# Altium footprint library PQFP-160_28x28x065P.PcbLib: 1 footprints
Each footprint in its own frame and in the unit in brackets; x right, y up, seen from the top. Pads: shape width x height; smd on the part's side, far side on the other; paste and mask are expansions set on the pad; w line width, h text height; cw(c..) or ccw(c..) is an arc to the next point about the centre after c.
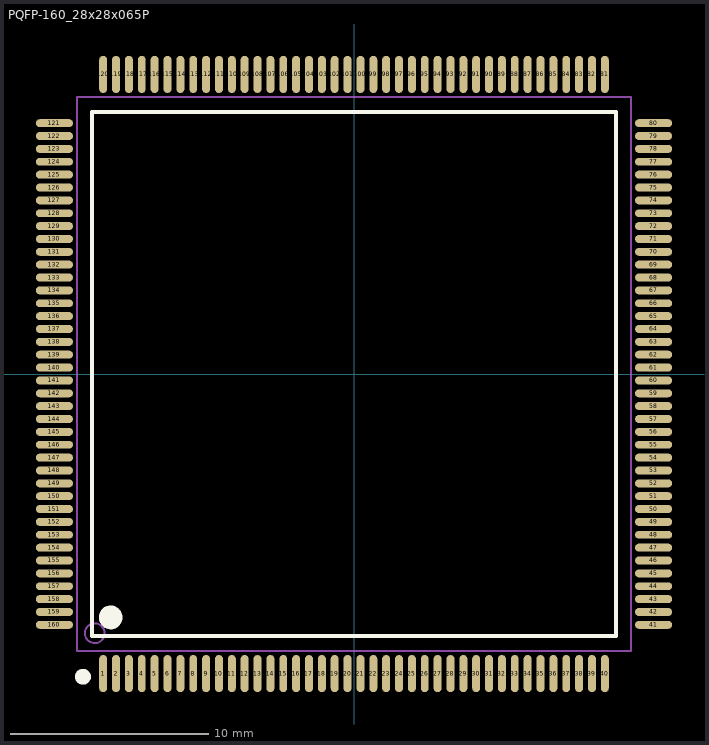
[diagram p0: the footprint, top view; thin cyan lines are the x and y axes]

## PQFP-160_28x28x065P [mm]
pads (160):
  oval 0.4x1.88 smd mask+0.051: 1(-12.675,-15.14) 2(-12.025,-15.14) 3(-11.375,-15.14) 4(-10.725,-15.14) 5(-10.075,-15.14) 6(-9.425,-15.14) 7(-8.775,-15.14) 8(-8.125,-15.14) 9(-7.475,-15.14) 10(-6.825,-15.14) 11(-6.175,-15.14) 12(-5.525,-15.14) 13(-4.875,-15.14) 14(-4.225,-15.14) 15(-3.575,-15.14) 16(-2.925,-15.14) 17(-2.275,-15.14) 18(-1.625,-15.14) 19(-0.975,-15.14) 20(-0.325,-15.14) 21(0.325,-15.14) 22(0.975,-15.14) 23(1.625,-15.14) 24(2.275,-15.14) 25(2.925,-15.14) 26(3.575,-15.14) 27(4.225,-15.14) 28(4.875,-15.14) 29(5.525,-15.14) 30(6.175,-15.14) 31(6.825,-15.14) 32(7.475,-15.14) 33(8.125,-15.14) 34(8.775,-15.14) 35(9.425,-15.14) 36(10.075,-15.14) 37(10.725,-15.14) 38(11.375,-15.14) 39(12.025,-15.14) 40(12.675,-15.14) 81(12.675,15.14) 82(12.025,15.14) 83(11.375,15.14) 84(10.725,15.14) 85(10.075,15.14) 86(9.425,15.14) 87(8.775,15.14) 88(8.125,15.14) 89(7.475,15.14) 90(6.825,15.14) 91(6.175,15.14) 92(5.525,15.14) 93(4.875,15.14) 94(4.225,15.14) 95(3.575,15.14) 96(2.925,15.14) 97(2.275,15.14) 98(1.625,15.14) 99(0.975,15.14) 100(0.325,15.14) 101(-0.325,15.14) 102(-0.975,15.14) 103(-1.625,15.14) 104(-2.275,15.14) 105(-2.925,15.14) 106(-3.575,15.14) 107(-4.225,15.14) 108(-4.875,15.14) 109(-5.525,15.14) 110(-6.175,15.14) 111(-6.825,15.14) 112(-7.475,15.14) 113(-8.125,15.14) 114(-8.775,15.14) 115(-9.425,15.14) 116(-10.075,15.14) 117(-10.725,15.14) 118(-11.375,15.14) 119(-12.025,15.14) 120(-12.675,15.14)
  oval 1.88x0.4 smd mask+0.051: 41(15.14,-12.675) 42(15.14,-12.025) 43(15.14,-11.375) 44(15.14,-10.725) 45(15.14,-10.075) 46(15.14,-9.425) 47(15.14,-8.775) 48(15.14,-8.125) 49(15.14,-7.475) 50(15.14,-6.825) 51(15.14,-6.175) 52(15.14,-5.525) 53(15.14,-4.875) 54(15.14,-4.225) 55(15.14,-3.575) 56(15.14,-2.925) 57(15.14,-2.275) 58(15.14,-1.625) 59(15.14,-0.975) 60(15.14,-0.325) 61(15.14,0.325) 62(15.14,0.975) 63(15.14,1.625) 64(15.14,2.275) 65(15.14,2.925) 66(15.14,3.575) 67(15.14,4.225) 68(15.14,4.875) 69(15.14,5.525) 70(15.14,6.175) 71(15.14,6.825) 72(15.14,7.475) 73(15.14,8.125) 74(15.14,8.775) 75(15.14,9.425) 76(15.14,10.075) 77(15.14,10.725) 78(15.14,11.375) 79(15.14,12.025) 80(15.14,12.675) 121(-15.14,12.675) 122(-15.14,12.025) 123(-15.14,11.375) 124(-15.14,10.725) 125(-15.14,10.075) 126(-15.14,9.425) 127(-15.14,8.775) 128(-15.14,8.125) 129(-15.14,7.475) 130(-15.14,6.825) 131(-15.14,6.175) 132(-15.14,5.525) 133(-15.14,4.875) 134(-15.14,4.225) 135(-15.14,3.575) 136(-15.14,2.925) 137(-15.14,2.275) 138(-15.14,1.625) 139(-15.14,0.975) 140(-15.14,0.325) 141(-15.14,-0.325) 142(-15.14,-0.975) 143(-15.14,-1.625) 144(-15.14,-2.275) 145(-15.14,-2.925) 146(-15.14,-3.575) 147(-15.14,-4.225) 148(-15.14,-4.875) 149(-15.14,-5.525) 150(-15.14,-6.175) 151(-15.14,-6.825) 152(-15.14,-7.475) 153(-15.14,-8.125) 154(-15.14,-8.775) 155(-15.14,-9.425) 156(-15.14,-10.075) 157(-15.14,-10.725) 158(-15.14,-11.375) 159(-15.14,-12.025) 160(-15.14,-12.675)
Top Overlay:
  circle w0.6: c-12.3,-12.3 r0.3
  circle w0.4: c-13.7,-15.3 r0.2
  lines w0.2: -13.25,-13.25 -13.25,13.25 13.25,13.25 13.25,-13.25 -13.25,-13.25
Mechanical 13:
  circle w0.1: c-13.1,-13.1 r0.5
  lines w0.1: -14,-14 -14,14 14,14 14,-14 -14,-14